# Altium footprint library F52R1A7H111008.PcbLib: 1 footprints
Each footprint in its own frame and in the unit in brackets; x right, y up, seen from the top. Pads: shape width x height; smd on the part's side, far side on the other; paste and mask are expansions set on the pad; w line width, h text height; cw(c..) or ccw(c..) is an arc to the next point about the centre after c.
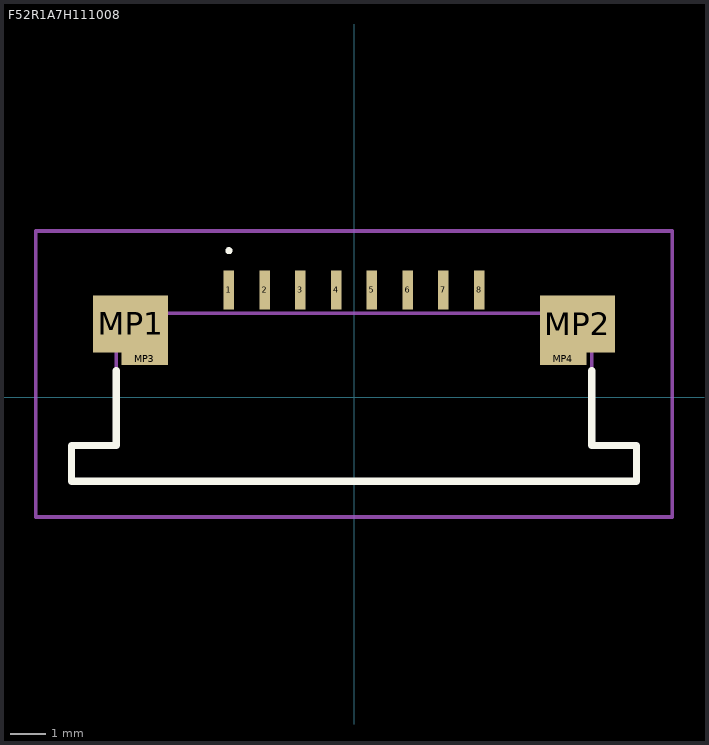
[diagram p0: the footprint, top view; thin cyan lines are the x and y axes]

## F52R1A7H111008 [mm]
pads (12):
  rect 0.3x1.1 smd: 1(-3.5,3) 2(-2.5,3) 3(-1.5,3) 4(-0.5,3) 5(0.5,3) 6(1.5,3) 7(2.5,3) 8(3.5,3)
  rect 2.1x1.6 smd: MP1(-6.25,2.05) MP2(6.25,2.05)
  rect 1.3x0.35 smd: MP3(-5.85,1.075) MP4(5.85,1.075)
Top Overlay:
  lines w0.1: -3.5,4.05 cw(c-3.5,4.1) -3.5,4.15 ; -3.5,4.05 -3.5,4.05 ; -3.5,4.05 ccw(c-3.5,4.1) -3.5,4.15 ; -3.5,4.15 -3.5,4.15
  lines w0.2: -6.65,0.75 -6.65,-1.35 -7.9,-1.35 -7.9,-2.35 7.9,-2.35 7.9,-1.35 6.65,-1.35 6.65,0.75
Mechanical 15:
  lines w0.1: -7.9,-2.35 -7.9,-1.35 -6.65,-1.35 -6.65,2.35 6.65,2.35 6.65,-1.35 7.9,-1.35 7.9,-2.35 -7.9,-2.35
Mechanical 20:
  lines w0.1: -8.9,-3.35 8.9,-3.35 8.9,4.65 -8.9,4.65 -8.9,-3.35